# Altium footprint library OltestLib.PcbLib: 98 footprints (part 2 of 7)
Each footprint in its own frame and in the unit in brackets; x right, y up, seen from the top. Pads: shape width x height; smd on the part's side, far side on the other; paste and mask are expansions set on the pad; w line width, h text height; cw(c..) or ccw(c..) is an arc to the next point about the centre after c.
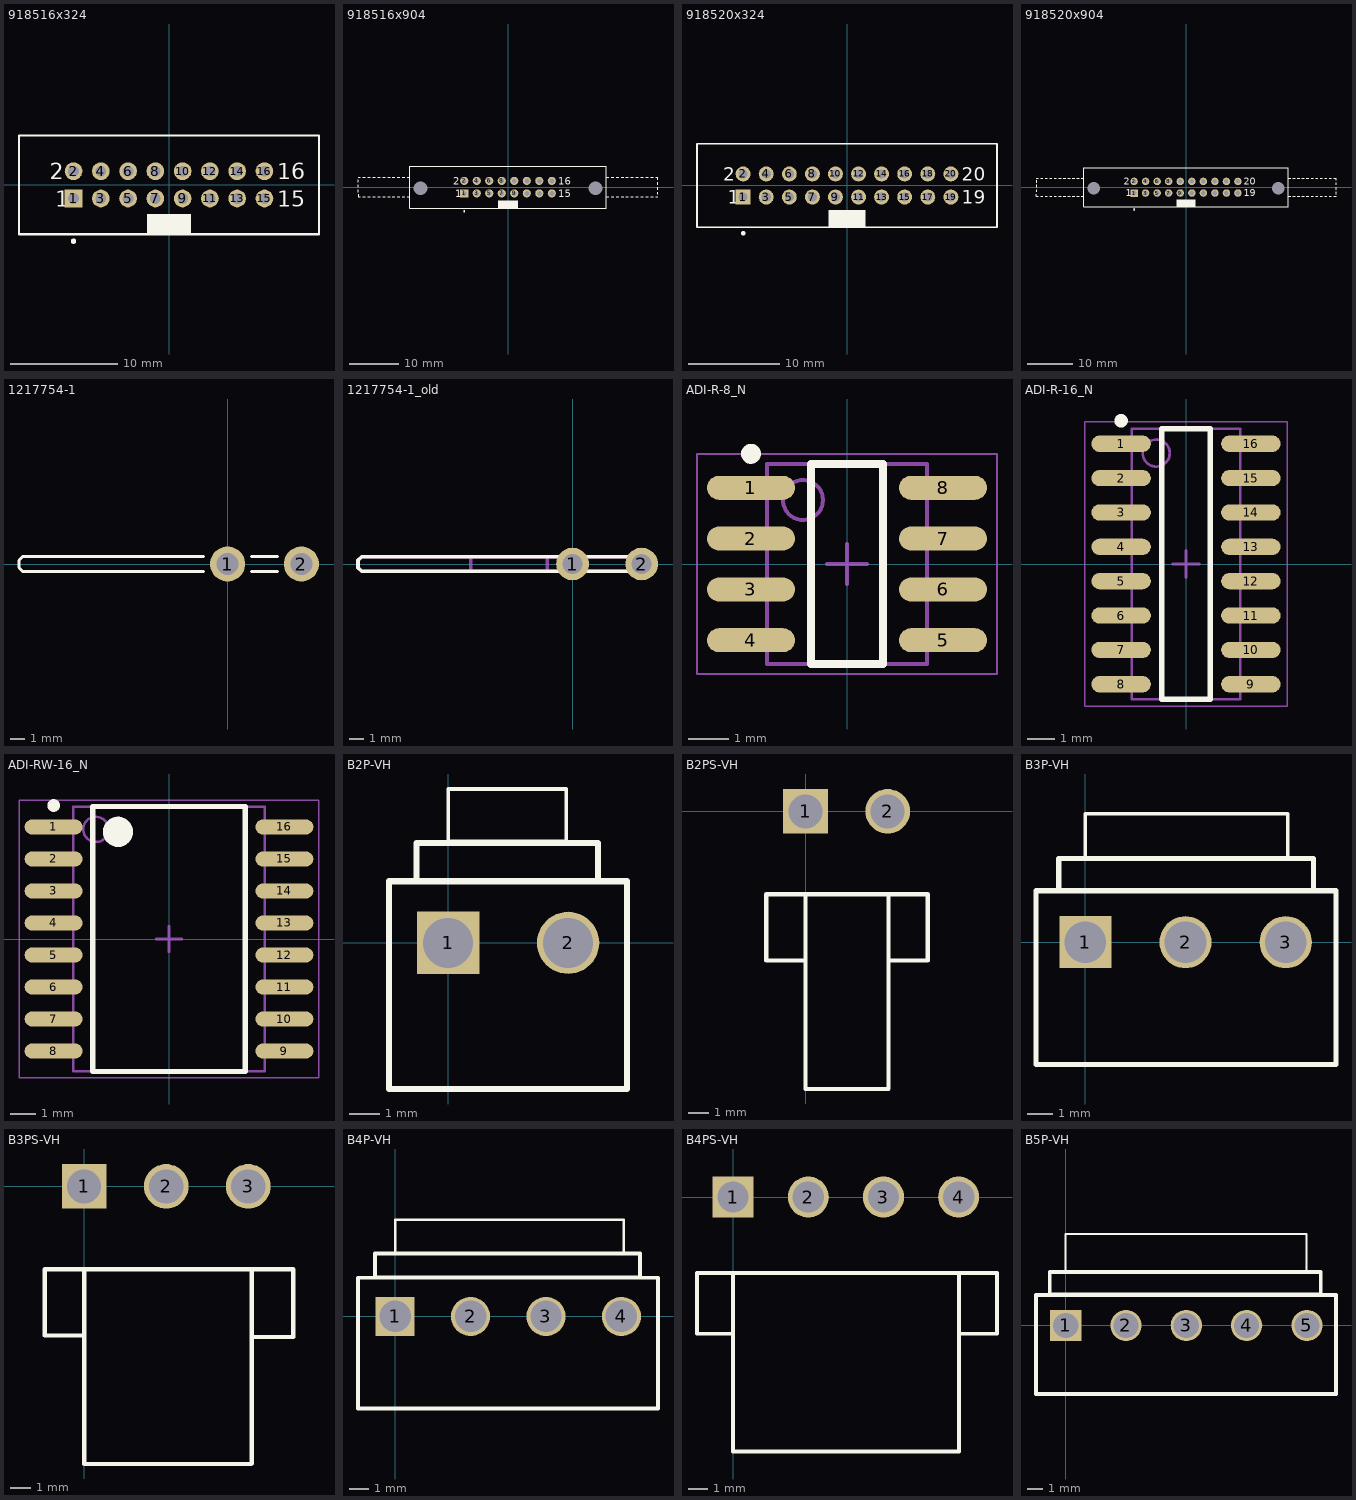
[diagram p1: the footprints below, top view; thin cyan lines are the x and y axes]

## 918516x324 [mm] "Connector; IDC, Low Profile Male Header, Thru-Hole; 16 Position; Vertical; Pitch 2.54 mm; Body 27.94 x 9.2 x 9.45 mm (LxWxH)"
height 9.45
pads (16):
  rect 1.65x1.65 hole 1: 1(-8.89,-1.27)
  round 1.65 hole 1: 2(-8.89,1.27) 3(-6.35,-1.27) 4(-6.35,1.27) 5(-3.81,-1.27) 6(-3.81,1.27) 7(-1.27,-1.27) 8(-1.27,1.27) 9(1.27,-1.27) 10(1.27,1.27) 11(3.81,-1.27) 12(3.81,1.27) 13(6.35,-1.27) 14(6.35,1.27) 15(8.89,-1.27) 16(8.89,1.27)
Top Overlay:
  circle w0.25: c-8.89,-5.25 r0.125
  rectangle: -2.05,-4.6 2.05,-2.7
  lines w0.2: -13.97,-4.6 13.97,-4.6 13.97,4.6 -13.97,4.6 -13.97,-4.6
  text "15" at 10.09,-2.02 h1.5
  text "16" at 10.09,0.52 h1.5
  text "1" at -10.59,-2.02 h1.5
  text "2" at -11.09,0.52 h1.5

## 918516x904 [mm] "Connector; IDC, Thru-Hole; 16 Position; Vertical; Pitch 2.54 mm; Body 39.90 x 8.5 x 25.75 mm (LxWxH), Locking levers"
height 25.75
pads (18):
  rect 1.65x1.65 hole 1: 1(-8.89,-1.27)
  round 1.65 hole 1: 2(-8.89,1.27) 3(-6.35,-1.27) 4(-6.35,1.27) 5(-3.81,-1.27) 6(-3.81,1.27) 7(-1.27,-1.27) 8(-1.27,1.27) 9(1.27,-1.27) 10(1.27,1.27) 11(3.81,-1.27) 12(3.81,1.27) 13(6.35,-1.27) 14(6.35,1.27) 15(8.89,-1.27) 16(8.89,1.27)
  round 2.5 hole 2.8 unplated: MH1(-17.78,-0.25) MH2(17.78,-0.25)
Top Overlay:
  circle w0.25: c-8.89,-4.9 r0.125
  rectangle: -2.05,-4.25 2.05,-2.7
  lines w0.2: -30.46,-1.5 -30.45,-2 -29.96,-2 ; -30.45,-1 -30.45,-0.5 ; -30.45,0 -30.45,0.5 ; -30.45,1 -30.45,1.5 ; -30.45,2 -29.96,2 ; -29.46,-2 -28.96,-2 ; -29.46,2 -28.96,2 ; -28.46,-2 -27.96,-2 ; -28.46,2 -27.96,2 ; -27.46,-2 -26.96,-2 ; -27.46,2 -26.96,2 ; -26.46,-2 -25.96,-2 ; -26.46,2 -25.96,2 ; -25.46,-2 -24.96,-2 ; -25.46,2 -24.96,2 ; -24.46,-2 -23.96,-2 ; -24.46,2 -23.96,2 ; -23.46,-2 -22.96,-2 ; -23.46,2 -22.96,2 ; -22.46,-2 -21.96,-2 ; -22.46,2 -21.96,2 ; -21.46,-2 -20.96,-2 ; -21.46,2 -20.96,2 ; -20.46,-2 -19.95,-2 ; -20.46,2 -19.95,2 ; 19.95,-2 20.45,-2 ; 19.95,2 20.45,2 ; 20.95,-2 21.45,-2 ; 20.95,2 21.45,2 ; 21.95,-2 22.45,-2 ; 21.95,2 22.45,2 ; 22.95,-2 23.45,-2 ; 22.95,2 23.45,2 ; 23.95,-2 24.45,-2 ; 23.95,2 24.45,2 ; 24.95,-2 25.45,-2 ; 24.95,2 25.45,2 ; 25.95,-2 26.45,-2 ; 25.95,2 26.45,2 ; 26.95,-2 27.45,-2 ; 26.95,2 27.45,2 ; 27.95,-2 28.45,-2 ; 27.95,2 28.45,2 ; 28.95,-2 29.45,-2 ; 28.95,2 29.45,2 ; 29.95,-2 30.45,-2 ; 29.95,2 30.45,2 30.45,1.5 ; 30.45,-1.5 30.45,-1 ; 30.45,-0.5 30.45,0 ; 30.45,0.5 30.45,1 ; -19.95,-4.25 -19.95,4.25 19.95,4.25 19.95,-4.25 -19.95,-4.25
  text "2" at -11.17,0.52 h1.5
  text "1" at -10.67,-2.02 h1.5
  text "16" at 10.17,0.52 h1.5
  text "15" at 10.17,-2.02 h1.5
3D body "0918_SEK_male_header_straight_16-pin_w_long_lever_2_9_PCB.stp": height 25.8, standoff -3.15, extent -19.914,-4.207 19.986,4.293

## 918520x324 [mm] "Connector; IDC, Low Profile Male Header, Thru-Hole; 20 Position; Vertical; Pitch 2.54 mm; Body 33.02 x 9.2 x 9.45 mm (LxWxH)"
height 9.45
pads (20):
  rect 1.65x1.65 hole 1: 1(-11.43,-1.27)
  round 1.65 hole 1: 2(-11.43,1.27) 3(-8.89,-1.27) 4(-8.89,1.27) 5(-6.35,-1.27) 6(-6.35,1.27) 7(-3.81,-1.27) 8(-3.81,1.27) 9(-1.27,-1.27) 10(-1.27,1.27) 11(1.27,-1.27) 12(1.27,1.27) 13(3.81,-1.27) 14(3.81,1.27) 15(6.35,-1.27) 16(6.35,1.27) 17(8.89,-1.27) 18(8.89,1.27) 19(11.43,-1.27) 20(11.43,1.27)
Top Overlay:
  circle w0.25: c-11.43,-5.25 r0.125
  rectangle: -2.05,-4.6 2.05,-2.7
  lines w0.2: -16.51,-4.6 -16.51,4.6 16.51,4.6 16.51,-4.6 -16.51,-4.6
  text "2" at -13.63,0.52 h1.5
  text "1" at -13.13,-2.02 h1.5
  text "20" at 12.63,0.52 h1.5
  text "19" at 12.63,-2.02 h1.5
3D body "0918_SEK_low_profile_male_header_straight_20-pin_2_9_PCB.stp": height 9.47, standoff -3.18, extent -16.51,-4.45 16.51,4.75

## 918520x904 [mm] "Connector; IDC, Thru-Hole; 20 Position; Vertical; Pitch 2.54 mm; Body 45.00 x 8.5 x 25.75 mm (LxWxH), Locking levers"
height 25.75
pads (22):
  rect 1.65x1.65 hole 1: 1(-11.43,-1.27)
  round 1.65 hole 1: 2(-11.43,1.27) 3(-8.89,-1.27) 4(-8.89,1.27) 5(-6.35,-1.27) 6(-6.35,1.27) 7(-3.81,-1.27) 8(-3.81,1.27) 9(-1.27,-1.27) 10(-1.27,1.27) 11(1.27,-1.27) 12(1.27,1.27) 13(3.81,-1.27) 14(3.81,1.27) 15(6.35,-1.27) 16(6.35,1.27) 17(8.89,-1.27) 18(8.89,1.27) 19(11.43,-1.27) 20(11.43,1.27)
  round 2.5 hole 2.8 unplated: MH1(-20.32,-0.25) MH2(20.32,-0.25)
Top Overlay:
  circle w0.25: c-11.43,-4.9 r0.125
  rectangle: -2.05,-4.25 2.05,-2.7
  lines w0.2: -33.01,-0.5 -33,-1 ; -33.01,0.5 -33,0 ; -33.01,1.5 -33,1 ; -33,-1.5 -33,-2 -32.5,-2 ; -33,2 -32.5,2 ; -32,-2 -31.5,-2 ; -32,2 -31.5,2 ; -31,-2 -30.5,-2 ; -31,2 -30.5,2 ; -30,-2 -29.5,-2 ; -30,2 -29.5,2 ; -29,-2 -28.5,-2 ; -29,2 -28.5,2 ; -28,-2 -27.5,-2 ; -28,2 -27.5,2 ; -27,-2 -26.5,-2 ; -27,2 -26.5,2 ; -26,-2 -25.5,-2 ; -26,2 -25.5,2 ; -25,-2 -24.5,-2 ; -25,2 -24.5,2 ; -24,-2 -23.5,-2 ; -24,2 -23.5,2 ; -23,-2 -22.5,-2 ; -23,2 -22.5,2 ; 22.5,-2 23,-2 ; 22.5,2 23,2 ; 23.5,-2 24,-2 ; 23.5,2 24,2 ; 24.5,-2 25,-2 ; 24.5,2 25,2 ; 25.5,-2 26,-2 ; 25.5,2 26,2 ; 26.5,-2 27,-2 ; 26.5,2 27,2 ; 27.5,-2 28,-2 ; 27.5,2 28,2 ; 28.5,-2 29,-2 ; 28.5,2 29,2 ; 29.5,-2 30,-2 ; 29.5,2 30,2 ; 30.5,-2 31,-2 ; 30.5,2 31,2 ; 31.5,-2 32,-2 ; 31.5,2 32,2 ; 32.5,-2 33,-2 ; 32.5,2 33,2 33,1.5 ; 33,-1.5 33,-1 ; 33,-0.5 33,0 ; 33,0.5 33,1 ; -22.5,-4.25 22.5,-4.25 22.5,4.25 -22.5,4.25 -22.5,-4.25
  text "19" at 12.71,-2.02 h1.5
  text "20" at 12.71,0.52 h1.5
  text "1" at -13.21,-2.02 h1.5
  text "2" at -13.71,0.52 h1.5
3D body "0918_SEK_male_header_straight_20-pin_w_long_lever_2_9_PCB.stp": height 25.8, standoff -3.15, extent -22.505,-4.258 22.495,4.242

## 1217754-1 [mil]
pads (2):
  round 95 hole 60: 1(0,0) 2(200,0)
Top Overlay:
  lines w8: -65,-20 -555,-20 -565,-10 -565,10 -555,20 -65,20 ; 65,-20 135,-20 ; 65,20 135,20
3D body "c-1217754-1-d-3d.stp": height 351, standoff -149, extent -569,-15.5 231,16

## 1217754-1_old [mil]
pads (2):
  round 90 hole 55: 1(0,0) 2(190,0)
Top Overlay:
  lines w10: -590,-10 -580,-20 210,-20 210,20 -580,20 -590,10 -590,-10
Mechanical 13:
  lines w10: -70,-20 210,-20 ; -70,-20 210,-20 ; -70,-20 -70,20 210,20 ; 210,-20 -580,-20 -590,-10 -590,10 -580,20 210,20 ; 210,-20 210,20 ; 210,-20 210,20 ; 210,-20 -280,-20 -280,20 210,20 ; 210,-20 210,20
3D body: height 250, standoff 100, extent -595,-25 215,25
3D body: height 70, standoff 0, extent -69.98,-19.98 209.98,19.98
3D body: height 100, standoff 70, extent -279.98,-19.98 -70.02,19.98
3D body: height 100, standoff 70, extent -69.98,-19.98 209.98,19.98

## ADI-R-8_N [mm] "SOIC, 8-Leads, Body 4.9x3.9mm, Pitch 1.27mm, IPC Medium Density"
height 1.75
pads (8):
  oval 2.2x0.6 smd: 1(-2.4,1.905) 2(-2.4,0.635) 3(-2.4,-0.635) 4(-2.4,-1.905) 5(2.4,-1.905) 6(2.4,-0.635) 7(2.4,0.635) 8(2.4,1.905)
Top Overlay:
  circle w0.25: c-2.4,2.755 r0.125
  lines w0.2: -0.9,-2.5 -0.9,2.5 0.9,2.5 0.9,-2.5 -0.9,-2.5
Mechanical 13:
  circle w0.1: c-1.1,1.6 r0.5
  lines w0.1: -2,-2.5 -2,2.5 2,2.5 2,-2.5 -2,-2.5
Mechanical 15:
  lines w0.05: -3.75,-2.75 -3.75,2.75 3.75,2.75 3.75,-2.75 -3.75,-2.75
  lines w0.1: -0.5,0 0.5,0 ; 0,-0.5 0,0.5
3D body: height 1.75, standoff 0.1, extent -2,-2.5 2,2.5

## ADI-R-16_N [mm] "SOIC, 16-Leads, Body 9.9x3.9mm, Pitch 1.27mm, IPC Medium Density"
height 1.75
pads (16):
  oval 2.2x0.6 smd: 1(-2.4,4.445) 2(-2.4,3.175) 3(-2.4,1.905) 4(-2.4,0.635) 5(-2.4,-0.635) 6(-2.4,-1.905) 7(-2.4,-3.175) 8(-2.4,-4.445) 9(2.4,-4.445) 10(2.4,-3.175) 11(2.4,-1.905) 12(2.4,-0.635) 13(2.4,0.635) 14(2.4,1.905) 15(2.4,3.175) 16(2.4,4.445)
Top Overlay:
  circle w0.25: c-2.4,5.295 r0.125
  lines w0.2: -0.9,-5 -0.9,5 0.9,5 0.9,-5 -0.9,-5
Mechanical 13:
  circle w0.1: c-1.1,4.1 r0.5
  lines w0.1: -2,-5 -2,5 2,5 2,-5 -2,-5
Mechanical 15:
  lines w0.05: -3.75,-5.25 -3.75,5.25 3.75,5.25 3.75,-5.25 -3.75,-5.25
  lines w0.1: -0.5,0 0.5,0 ; 0,-0.5 0,0.5
3D body: height 1.75, standoff 0.1, extent -2,-5 2,5

## ADI-RW-16_N [mm] "SOIC, 16-Leads, Body 10.3x7.5mm, Pitch 1.27mm, IPC Medium Density"
height 2.65
pads (16):
  oval 2.3x0.6 smd: 1(-4.575,4.445) 2(-4.575,3.175) 3(-4.575,1.905) 4(-4.575,0.635) 5(-4.575,-0.635) 6(-4.575,-1.905) 7(-4.575,-3.175) 8(-4.575,-4.445) 9(4.575,-4.445) 10(4.575,-3.175) 11(4.575,-1.905) 12(4.575,-0.635) 13(4.575,0.635) 14(4.575,1.905) 15(4.575,3.175) 16(4.575,4.445)
Top Overlay:
  circle w0.25: c-4.575,5.295 r0.125
  circle w0.6: c-2.025,4.25 r0.3
  lines w0.2: -3.025,-5.25 -3.025,5.25 3.025,5.25 3.025,-5.25 -3.025,-5.25
Mechanical 13:
  circle w0.1: c-2.9,4.35 r0.5
  lines w0.1: -3.8,-5.25 -3.8,5.25 3.8,5.25 3.8,-5.25 -3.8,-5.25
Mechanical 15:
  lines w0.05: -5.95,-5.5 -5.95,5.5 5.95,5.5 5.95,-5.5 -5.95,-5.5
  lines w0.1: -0.5,0 0.5,0 ; 0,-0.5 0,0.5
3D body: height 2.65, standoff 0.1, extent -3.8,-5.25 3.8,5.25

## B2P-VH [mm]
pads (2):
  rect 2.057x2.057 / inner round 0 / far side round 2.057 hole 1.65 mask+0.128: 1(0,0)
  round 2.057 / inner round 0 / far side round 2.057 hole 1.65 mask+0.128: 2(3.96,0)
Top Overlay:
  lines w0.127: 0,3.342 0,5.08 3.9,5.08 3.9,3.342 0,3.342
  lines w0.203: -1.95,-4.826 -1.95,2.032 5.9,2.032 5.9,-4.826 -1.95,-4.826 ; -1.05,2.032 4.95,2.032 4.95,3.302 -1.05,3.302 -1.05,2.032
3D body "B2P-VH.STEP": height 10.93, standoff -3.67, extent -1.949,-4.809 5.911,3.691

## B2PS-VH [mm]
pads (2):
  rect 2.158x2.158 / inner round 0 / far side rect 2.158x2.158 hole 1.65 mask+0.128: 1(0,0)
  round 2.158 / inner round 0 / far side round 2.158 hole 1.65 mask+0.128: 2(3.96,0)
Top Overlay:
  lines w0.203: 0,-7.193 -1.898,-7.193 -1.898,-3.996 5.894,-3.996 5.894,-7.193 3.996,-7.193 ; 0,-13.4 3.996,-13.387 3.996,-4 0,-4 0,-13.4
3D body "B2PS-VH.STEP": height 8.5, standoff -3.6, extent -1.949,-14.861 5.911,0.609

## B3P-VH [mm]
pads (3):
  rect 2.057x2.057 / inner round 0 / far side round 2.057 hole 1.65 mask+0.128: 1(0,0)
  round 2.057 / inner round 0 / far side round 2.057 hole 1.65 mask+0.128: 2(3.96,0) 3(7.92,0)
Top Overlay:
  lines w0.127: 0,3.302 0,5.08 8.001,5.08 8.001,3.302 0,3.302
  lines w0.203: -1.95,-4.826 9.906,-4.826 9.906,2.032 -1.95,2.032 -1.95,-4.826 ; -1.05,2.05 -1.05,3.302 9.017,3.302 9.017,2.05 -1.05,2.05
3D body "B3P-VH.STEP": height 10.93, standoff -3.67, extent -1.947,-4.783 9.873,3.717

## B3PS-VH [mm]
pads (3):
  rect 2.158x2.158 / inner round 0 / far side rect 2.158x2.158 hole 1.65 mask+0.128: 1(0,0)
  round 2.158 / inner round 0 / far side round 2.158 hole 1.65 mask+0.128: 2(3.96,0) 3(7.92,0)
Top Overlay:
  lines w0.203: 0,-7.2 -1.9,-7.2 -1.9,-4 10.084,-4 ; 0,-4 0,-13.4 8.063,-13.4 8.09,-13.373 8.09,-4 ; 8.103,-7.264 8.752,-7.264 9.441,-7.264 10.09,-7.264 10.09,-4
3D body "B3PS-VH.STEP": height 8.5, standoff -3.6, extent -1.947,-14.912 9.873,0.558

## B4P-VH [mm]
pads (4):
  rect 2.057x2.057 / inner round 0 / far side round 2.057 hole 1.65 mask+0.128: 1(0,0)
  round 2.057 / inner round 0 / far side round 2.057 hole 1.65 mask+0.128: 2(3.96,0) 3(7.92,0) 4(11.88,0)
Top Overlay:
  lines w0.127: 0,3.302 12,3.302 12,5.08 0,5.08 0,3.302
  lines w0.203: -1.95,-4.826 -1.95,2.032 13.8,2.032 13.8,-4.826 -1.95,-4.826 ; -1.05,2.05 12.85,2.05 12.85,3.302 -1.05,3.302 -1.05,2.05
3D body "B4P-VH.STEP": height 10.93, standoff -3.67, extent -1.946,-4.783 13.834,3.717

## B4PS-VH [mm]
pads (4):
  rect 2.158x2.158 / inner round 0 / far side rect 2.158x2.158 hole 1.65 mask+0.128: 1(0,0)
  round 2.158 / inner round 0 / far side round 2.158 hole 1.65 mask+0.128: 2(3.96,0) 3(7.92,0) 4(11.88,0)
Top Overlay:
  lines w0.203: 0,-7.2 -1.9,-7.2 -1.9,-4 13.9,-4 13.9,-7.2 11.9,-7.2 ; 0,-13.4 11.9,-13.4 11.9,-4 0,-4 0,-13.4
3D body "B4PS-VH.STEP": height 8.5, standoff -3.6, extent -1.946,-14.911 13.834,0.559

## B5P-VH [mm]
pads (5):
  rect 2.057x2.057 / inner round 0 / far side round 2.057 hole 1.65 mask+0.128: 1(0,0)
  round 2.057 / inner round 0 / far side round 2.057 hole 1.65 mask+0.128: 2(3.96,0) 3(7.92,0) 4(11.88,0) 5(15.84,0)
Top Overlay:
  lines w0.127: 0,3.5 0,6 15.8,6 15.8,3.5 0,3.5
  lines w0.254: -1.95,-4.5 17.75,-4.5 17.75,2 -1.95,2 -1.95,-4.5 ; -1.05,2.05 16.75,2.05 16.75,3.5 -1.05,3.5 -1.05,2.05